# EAGLE library part ACS709 (library ACS709)
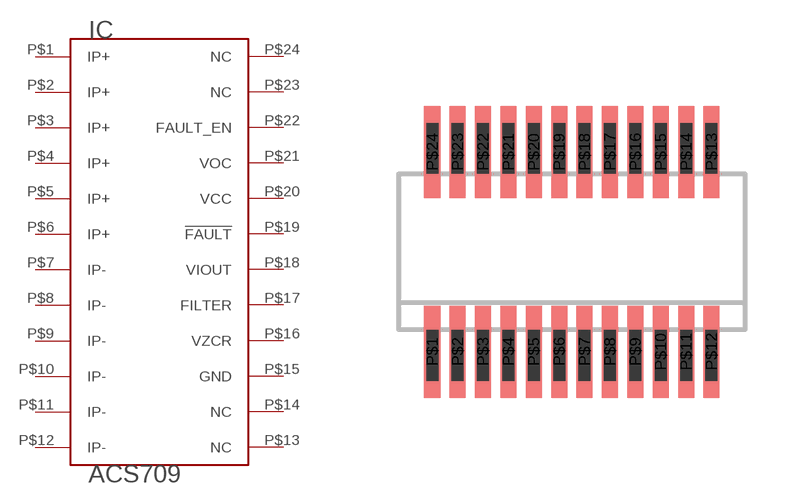
[diagram p0: symbol with the pads of QSOP24; footprint QSOP24]

Designator prefix IC

## ACS709  [QSOP24]
P$1  IP+  pas
P$2  IP+  pas
P$3  IP+  pas
P$4  IP+  pas
P$5  IP+  pas
P$6  IP+  pas
P$7  IP-  pas
P$8  IP-  pas
P$9  IP-  pas
P$10  IP-  pas
P$11  IP-  pas
P$12  IP-  pas
P$13  NC  nc
P$14  NC  nc
P$15  GND  pwr
P$16  VZCR  out
P$17  FILTER  oc
P$18  VIOUT  out
P$19  !FAULT  out
P$20  VCC  pwr
P$21  VOC  in
P$22  FAULT_EN  in
P$23  NC  nc
P$24  NC  nc

## Footprint QSOP24 (pad centres in mm)
smd 0.4 x 2.3: P$1 -3.493,-2.5; P$2 -2.857,-2.5; P$3 -2.223,-2.5; P$4 -1.587,-2.5; P$5 -0.953,-2.5; P$6 -0.318,-2.5; P$7 0.318,-2.5; P$8 0.953,-2.5; P$9 1.587,-2.5; P$10 2.223,-2.5; P$11 2.857,-2.5; P$12 3.493,-2.5; P$13 3.493,2.5; P$14 2.857,2.5; P$15 2.223,2.5; P$16 1.587,2.5; P$17 0.953,2.5; P$18 0.318,2.5; P$19 -0.318,2.5; P$20 -0.953,2.5; P$21 -1.587,2.5; P$22 -2.223,2.5; P$23 -2.857,2.5; P$24 -3.493,2.5